# Altium footprint library MrKoi_Lib_PCB.PcbLib: 26 footprints (part 1 of 2)
Each footprint in its own frame and in the unit in brackets; x right, y up, seen from the top. Pads: shape width x height; smd on the part's side, far side on the other; paste and mask are expansions set on the pad; w line width, h text height; cw(c..) or ccw(c..) is an arc to the next point about the centre after c.
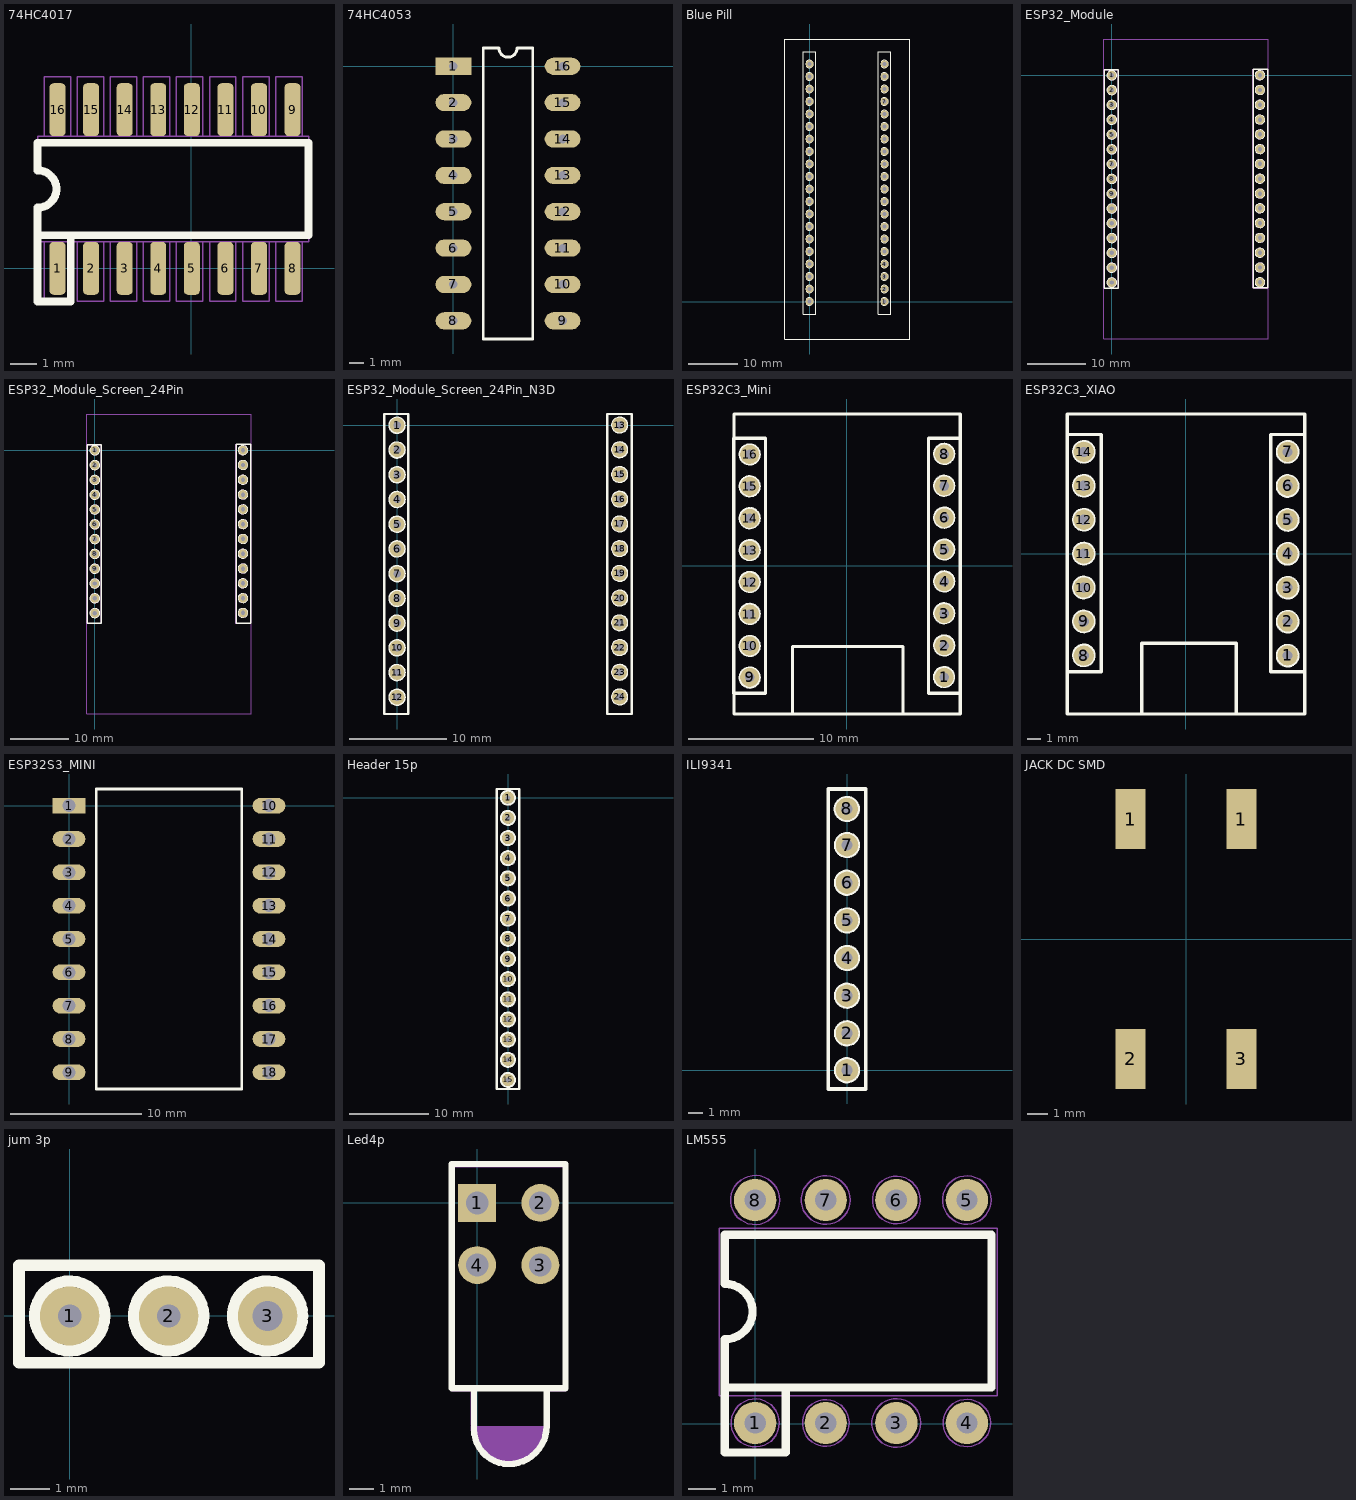
[diagram p0: the footprints below, top view; thin cyan lines are the x and y axes]

## 74HC4017 [mm] "SO16-SOT109-1"
height 1.75
pads (16):
  rrect50% 0.6x2 smd: 1(-5.06,0) 2(-3.79,0) 3(-2.52,0) 4(-1.25,0) 5(0.02,0) 6(1.29,0) 7(2.56,0) 8(3.83,0) 9(3.83,6) 10(2.56,6) 11(1.29,6) 12(0.02,6) 13(-1.25,6) 14(-2.52,6) 15(-3.79,6) 16(-5.06,6)
Top Overlay:
  lines w0.3: -4.56,1.25 -4.56,-1.25 -5.81,-1.25 -5.81,1.25 ; -5.81,1.25 4.44,1.25 4.44,4.75 -5.81,4.75 -5.81,4 -5.81,3.707 cw(c-5.81,3) -5.81,2.293 -5.81,2 -5.81,1.25
Bottom Hình chi?u b?ng:
  lines w0.05: -5.56,1 -5.56,-1.25 -4.56,-1.25 -4.56,1 ; -5.56,5 -5.56,7.25 -4.56,7.25 -4.56,5 ; -4.31,1 -4.31,-1.25 -3.31,-1.25 -3.31,1 ; -4.31,5 -4.31,7.25 -3.31,7.25 -3.31,5 ; -3.06,1 -3.06,-1.25 -2.06,-1.25 -2.06,1 ; -3.06,5 -3.06,7.25 -2.06,7.25 -2.06,5 ; -1.81,1 -1.81,-1.25 -0.81,-1.25 -0.81,1 ; -1.81,5 -1.81,7.25 -0.81,7.25 -0.81,5 ; -0.56,1 -0.56,-1.25 0.44,-1.25 0.44,1 0.69,1 0.69,-1.25 1.69,-1.25 1.69,1 1.94,1 1.94,-1.25 2.94,-1.25 2.94,1 ; -0.56,5 -0.56,7.25 0.44,7.25 0.44,5 ; 0.69,5 0.69,7.25 1.69,7.25 1.69,5 ; 1.94,5 1.94,7.25 2.94,7.25 2.94,5 ; 3.19,1 3.19,-1.25 4.19,-1.25 4.19,1 ; 3.19,5 3.19,7.25 4.19,7.25 4.19,5 ; -5.81,1 4.44,1 4.44,5 -5.81,5 -5.81,4 -5.81,3.707 cw(c-5.81,3) -5.81,2.293 -5.81,2 -5.81,1
  text "16" at -5.51,3.8 h1
  text "9" at 3.49,3.8 h1
  text "1" at -5.26,1.3 h1
  text "8" at 3.49,1.55 h1

## 74HC4053 [mm]
pads (16):
  rect 2.5x1.2 hole 0.6: 1(0,0)
  oval 2.5x1.2 hole 0.6: 2(0,-2.54) 3(0,-5.08) 4(0,-7.62) 5(0,-10.16) 6(0,-12.7) 7(0,-15.24) 8(0,-17.78) 9(7.62,-17.78) 10(7.62,-15.24) 11(7.62,-12.7) 12(7.62,-10.16) 13(7.62,-7.62) 14(7.62,-5.08) 15(7.62,-2.54) 16(7.62,0)
Top Overlay:
  lines w0.2: 2.085,-19.05 5.535,-19.05 5.535,1.27 4.445,1.27 cw(c3.81,1.27) 3.175,1.27 2.085,1.27 2.085,-19.05
3D body "DIP16.STEP": height 2.6, standoff -4.7, extent -0.135,-18.82 7.735,1.14

## BeagleBone Black [mil]
3D body "BEAGLEBONE_BLACK.STEP": height 545, standoff -217.65, extent -3561.02,-2151.95 0,0
3D body "BEAGLEBONE_BLACK.STEP": height 545, standoff -217.65, extent -3561.02,-2151.95 0,0

## Blue Pill [mil]
pads (40):
  round 60 hole 30: 1(600,0) 2(600,100) 3(600,200) 4(600,300) 7(600,1600) 10(600,400) 11(600,500) 12(600,600) 13(600,700) 14(600,800) 15(600,899.61) 16(600,1000) 17(600,1100) 18(600,1200) 19(600,1300) 21(600,1400) 22(600,1500) 25(0,1900) 26(0,1800) 27(0,1700) 28(0,1600) 29(0,1500) 30(0,1400) 31(0,1300) 32(0,1200) 33(0,1100) 38(0,1000) 39(0,899.61) 40(0,800) 41(0,700) 42(0,600) 43(0,500) 45(0,400) 46(0,300) 47(0,200) 48(0,100) 49(0,0) 50(600,1900) 51(600,1800) 52(600,1700)
Top Overlay:
  circle w10: c0,1900 r30
  circle w10: c0,1800 r30
  circle w10: c0,1700 r30
  circle w10: c0,1600 r30
  circle w10: c0,1500 r30
  circle w10: c0,1400 r30
  circle w10: c0,1300 r30
  circle w10: c0,1200 r30
  circle w10: c0,1100 r30
  circle w10: c0,1000 r30
  circle w10: c0,900 r30
  circle w10: c0,800 r30
  circle w10: c0,700 r30
  circle w10: c0,600 r30
  circle w10: c0,500 r30
  circle w10: c0,400 r30
  circle w10: c0,300 r30
  circle w10: c0,200 r30
  circle w10: c0,100 r30
  circle w10: c0,0 r30
  circle w10: c600,1900 r30
  circle w10: c600,1800 r30
  circle w10: c600,1700 r30
  circle w10: c600,1600 r30
  circle w10: c600,1500 r30
  circle w10: c600,1400 r30
  circle w10: c600,1300 r30
  circle w10: c600,1200 r30
  circle w10: c600,1100 r30
  circle w10: c600,1000 r30
  circle w10: c600,899.61 r30
  circle w10: c600,799.61 r30
  circle w10: c600,699.61 r30
  circle w10: c600,599.61 r30
  circle w10: c600,499.61 r30
  circle w10: c600,400 r30
  circle w10: c600,300 r30
  circle w10: c600,200 r30
  circle w10: c600,100 r30
  circle w10: c600,0 r30
  lines w10: -200,-300 800,-300 800,2100 -200,2100 -200,-300 ; -50,-100 50,-100 50,2000 -50,2000 -50,-100 ; 550,-100 650,-100 650,2000 550,2000 550,-100
3D body "STM32F103C8T6_Blue_Pill v6.step": height 699.61, standoff -19.69, extent -151.26,-233.46 748.74,2032.68

## ESP32_Module [mil]
pads (30):
  round 60 hole 30: 1(0,0) 2(0,-100) 3(0,-200) 4(0,-300) 5(0,-400) 6(0,-500) 7(0,-600) 8(0,-700) 9(0,-800) 10(0,-900) 11(0,-1000) 12(0,-1100) 13(0,-1200) 14(0,-1300) 15(0,-1400) 16(1001.57,1.18) 17(1001.57,-98.82) 18(1001.57,-198.82) 19(1001.57,-298.82) 20(1001.57,-398.82) 21(1001.57,-498.82) 22(1001.57,-598.82) 23(1001.57,-698.82) 24(1001.57,-798.82) 25(1001.57,-898.82) 26(1001.57,-998.82) 27(1001.57,-1098.82) 28(1001.57,-1198.82) 29(1001.57,-1298.82) 30(1001.57,-1398.82)
Top Overlay:
  circle w10: c1001.57,-198.82 r29.57
  circle w10: c1001.57,-298.82 r29.57
  circle w10: c1001.57,-98.82 r29.57
  circle w11.81: c0,-200 r29.57
  circle w11.81: c0,-300 r29.57
  circle w11.81: c0,-400 r29.57
  circle w11.81: c0,-500 r29.57
  circle w11.81: c0,0 r29.57
  circle w11.81: c0,-100 r29.57
  circle w10: c1001.57,-398.82 r29.57
  circle w10: c1001.57,-498.82 r29.57
  circle w10: c1001.57,-598.82 r29.57
  circle w10: c1001.57,-698.82 r29.57
  circle w10: c1001.57,-798.82 r29.57
  circle w10: c1001.57,1.18 r29.57
  circle w10: c1001.57,-898.82 r29.57
  circle w10: c1001.57,-998.82 r29.57
  circle w10: c1001.57,-1098.82 r29.57
  circle w10: c1001.57,-1198.82 r29.57
  circle w10: c1001.57,-1298.82 r29.57
  circle w10: c1001.57,-1398.82 r29.57
  circle w11.81: c0,-600 r29.57
  circle w11.81: c0,-700 r29.57
  circle w11.81: c0,-900 r29.57
  circle w11.81: c0,-1000 r29.57
  circle w11.81: c0,-1100 r29.57
  circle w11.81: c0,-1200 r29.57
  circle w11.81: c0,-1300 r29.57
  circle w11.81: c0,-1400 r29.57
  circle w11.81: c0,-800 r29.57
  lines w10: 43.31,-1439.37 43.31,37.01 -51.18,37.01 -51.18,-1439.37 43.31,-1439.37 ; 43.31,-1439.37 43.31,-1439.37 ; 956.69,-1435.43 956.69,40.94 1055.12,40.94 1055.12,-1435.43 956.69,-1435.43
Bottom Hình chi?u b?ng:
  circle w1.97: c1001.57,-1398.82 r29.57
  circle w1.97: c1001.57,-1298.82 r29.57
  circle w1.97: c1001.57,-1198.82 r29.57
  circle w1.97: c1001.57,-1098.82 r29.57
  circle w1.97: c1001.57,-998.82 r29.57
  circle w1.97: c1001.57,-898.82 r29.57
  circle w1.97: c1001.57,-798.82 r29.57
  circle w1.97: c1001.57,-698.82 r29.57
  circle w1.97: c1001.57,-598.82 r29.57
  circle w1.97: c1001.57,-498.82 r29.57
  circle w1.97: c1001.57,-398.82 r29.57
  circle w1.97: c1001.57,-298.82 r29.57
  circle w1.97: c1001.57,-198.82 r29.57
  circle w1.97: c1001.57,-98.82 r29.57
  circle w1.97: c1001.57,1.18 r29.57
  circle w1.97: c0,-700 r29.57
  circle w1.97: c0,-600 r29.57
  circle w1.97: c0,-500 r29.57
  circle w1.97: c0,-400 r29.57
  circle w1.97: c0,-300 r29.57
  circle w1.97: c0,-200 r29.57
  circle w1.97: c0,-100 r29.57
  circle w1.97: c0,0 r29.57
  circle w1.97: c0,-1400 r29.57
  circle w1.97: c0,-1300 r29.57
  circle w1.97: c0,-1200 r29.57
  circle w1.97: c0,-1100 r29.57
  circle w1.97: c0,-1000 r29.57
  circle w1.97: c0,-900 r29.57
  circle w1.97: c0,-800 r29.57
  lines w1.97: -53.54,-1439.37 -53.54,-1781.5 -53.15,-1781.89 1056.69,-1781.89 1056.69,-1439.37 ; -53.54,-1439.37 -53.54,37.01 ; -53.54,-1439.37 -53.54,-1439.37 ; -53.54,-1439.37 43.31,-1439.37 44.88,-1437.8 44.88,37.01 -53.54,37.01 ; -53.54,37.01 -53.54,245.67 1056.69,245.67 1056.69,40.94 ; 1056.69,-1439.37 958.27,-1439.37 954.33,-1435.43 954.33,40.94 1056.69,40.94 ; 1056.69,-1439.37 1056.69,40.94
3D body "esp32_dev_kit_v1_asm.stp": height 569.63, standoff -21.26, extent -51.18,-1781.89 1057.09,245.67

## ESP32_Module_Screen_24Pin [mil]
pads (24):
  round 60 hole 30: 1(0,0) 2(0,-100) 3(0,-200) 4(0,-300) 5(0,-400) 6(0,-500) 7(0,-600) 8(0,-700) 9(0,-800) 10(0,-900) 11(0,-1000) 12(0,-1100) 13(1001.57,1.18) 14(1001.57,-98.82) 15(1001.57,-198.82) 16(1001.57,-298.82) 17(1001.57,-398.82) 18(1001.57,-498.82) 19(1001.57,-598.82) 20(1001.57,-698.82) 21(1001.57,-798.82) 22(1001.57,-898.82) 23(1001.57,-998.82) 24(1001.57,-1098.82)
Top Overlay:
  circle w11.81: c0,-800 r29.57
  circle w11.81: c0,-1100 r29.57
  circle w11.81: c0,-1000 r29.57
  circle w11.81: c0,-900 r29.57
  circle w11.81: c0,-700 r29.57
  circle w11.81: c0,-600 r29.57
  circle w10: c1001.57,-1098.82 r29.57
  circle w10: c1001.57,-998.82 r29.57
  circle w10: c1001.57,-898.82 r29.57
  circle w10: c1001.57,1.18 r29.57
  circle w10: c1001.57,-798.82 r29.57
  circle w10: c1001.57,-698.82 r29.57
  circle w10: c1001.57,-598.82 r29.57
  circle w10: c1001.57,-498.82 r29.57
  circle w10: c1001.57,-398.82 r29.57
  circle w11.81: c0,-100 r29.57
  circle w11.81: c0,0 r29.57
  circle w11.81: c0,-500 r29.57
  circle w11.81: c0,-400 r29.57
  circle w11.81: c0,-300 r29.57
  circle w11.81: c0,-200 r29.57
  circle w10: c1001.57,-98.82 r29.57
  circle w10: c1001.57,-298.82 r29.57
  circle w10: c1001.57,-198.82 r29.57
  lines w10: -51.18,-1167.72 43.31,-1167.72 43.31,37.01 -51.18,37.01 -51.18,-1167.72 ; 956.69,-1167.72 1055.12,-1167.72 1055.12,40.94 956.69,40.94 956.69,-1167.72
Bottom Hình chi?u b?ng:
  circle w1.97: c0,-800 r29.57
  circle w1.97: c0,-900 r29.57
  circle w1.97: c0,-1000 r29.57
  circle w1.97: c0,-1100 r29.57
  circle w1.97: c0,0 r29.57
  circle w1.97: c0,-100 r29.57
  circle w1.97: c0,-200 r29.57
  circle w1.97: c0,-300 r29.57
  circle w1.97: c0,-400 r29.57
  circle w1.97: c0,-500 r29.57
  circle w1.97: c0,-600 r29.57
  circle w1.97: c0,-700 r29.57
  circle w1.97: c1001.57,1.18 r29.57
  circle w1.97: c1001.57,-98.82 r29.57
  circle w1.97: c1001.57,-198.82 r29.57
  circle w1.97: c1001.57,-298.82 r29.57
  circle w1.97: c1001.57,-398.82 r29.57
  circle w1.97: c1001.57,-498.82 r29.57
  circle w1.97: c1001.57,-598.82 r29.57
  circle w1.97: c1001.57,-698.82 r29.57
  circle w1.97: c1001.57,-798.82 r29.57
  circle w1.97: c1001.57,-898.82 r29.57
  circle w1.97: c1001.57,-998.82 r29.57
  circle w1.97: c1001.57,-1098.82 r29.57
  lines w1.97: -53.54,-1167.72 44.88,-1167.72 44.88,37.01 -53.54,37.01 ; 1056.69,-1167.72 954.33,-1167.72 954.33,40.94 1056.69,40.94 ; -53.54,-1439.37 -53.54,-1439.37 ; -53.54,-1439.37 -53.54,37.01 ; -53.54,-1439.37 -53.54,-1781.5 -53.15,-1781.89 1056.69,-1781.89 1056.69,-1439.37 1056.69,40.94 ; -53.54,37.01 -53.54,245.67 1056.69,245.67 1056.69,40.94
3D body "esp32_dev_kit_v1_asm.stp": height 569.63, standoff -21.26, extent -51.18,-1781.89 1057.09,245.67

## ESP32_Module_Screen_24Pin_N3D [mil]
pads (24):
  round 60 hole 30: 1(0,1.18) 2(0,-98.82) 3(0,-200) 4(0,-300) 5(0,-400) 6(0,-500) 7(0,-600) 8(0,-700) 9(0,-800) 10(0,-900) 11(0,-1000) 12(0,-1100) 13(900,1.18) 14(900,-98.82) 15(900,-198.82) 16(900,-298.82) 17(900,-398.82) 18(900,-498.82) 19(900,-598.82) 20(900,-698.82) 21(900,-798.82) 22(900,-898.82) 23(900,-998.82) 24(900,-1098.82)
Top Overlay:
  circle w11.81: c0,-200 r29.57
  circle w11.81: c0,-300 r29.57
  circle w11.81: c0,-400 r29.57
  circle w11.81: c0,-500 r29.57
  circle w11.81: c0,0 r29.57
  circle w11.81: c0,-100 r29.57
  circle w11.81: c0,-600 r29.57
  circle w11.81: c0,-700 r29.57
  circle w11.81: c0,-900 r29.57
  circle w11.81: c0,-1000 r29.57
  circle w11.81: c0,-1100 r29.57
  circle w11.81: c0,-800 r29.57
  circle w10: c900.57,-898.82 r29.57
  circle w10: c900.57,-598.82 r29.57
  circle w10: c900.57,-698.82 r29.57
  circle w10: c900.57,-798.82 r29.57
  circle w10: c900.57,-998.82 r29.57
  circle w10: c900.57,-98.82 r29.57
  circle w10: c900.57,1.18 r29.57
  circle w10: c900.57,-1098.82 r29.57
  circle w10: c900.57,-298.82 r29.57
  circle w10: c900.57,-498.82 r29.57
  circle w10: c900.57,-398.82 r29.57
  circle w10: c900.57,-198.82 r29.57
  lines w10: 850.2,40.94 850.2,-1167.72 948.62,-1167.72 948.62,40.94 ; 850.2,45.87 948.62,45.87 ; -51.18,-1167.72 -51.18,45.87 44.88,45.87 44.88,-1167.72 -51.18,-1167.72
Bottom Hình chi?u b?ng:
  circle w1.97: c0,-700 r29.57
  circle w1.97: c0,-600 r29.57
  circle w1.97: c0,-500 r29.57
  circle w1.97: c0,-400 r29.57
  circle w1.97: c0,-300 r29.57
  circle w1.97: c0,-200 r29.57
  circle w1.97: c0,-100 r29.57
  circle w1.97: c0,-1100 r29.57
  circle w1.97: c0,-1000 r29.57
  circle w1.97: c0,-900 r29.57
  circle w1.97: c0,-800 r29.57
  circle w1.97: c896.56,-598.82 r29.57
  circle w1.97: c896.56,-398.82 r29.57
  circle w1.97: c896.56,-298.82 r29.57
  circle w1.97: c896.56,-498.82 r29.57
  circle w1.97: c896.56,-698.82 r29.57
  circle w1.97: c896.56,-1098.82 r29.57
  circle w1.97: c896.56,-898.82 r29.57
  circle w1.97: c896.56,-998.82 r29.57
  circle w1.97: c896.56,-798.82 r29.57
  circle w1.97: c896.56,-198.82 r29.57
  circle w1.97: c896.56,-98.82 r29.57

## ESP32C3_Mini [mil]
pads (16):
  round 60 hole 30: 1(305.02,-350) 2(305.02,-250.79) 3(305.02,-150) 4(305.02,-50) 5(305.02,50) 6(305.02,150) 7(305.02,250) 8(305.02,350) 9(-305.02,-350) 10(-305.02,-251.79) 11(-305.02,-151.79) 12(-305.02,-51.79) 13(-305.02,48.21) 14(-305.02,148.21) 15(-305.02,249) 16(-305.02,349)
Top Overlay:
  circle w10: c-305.02,249 r30
  circle w10: c-305.02,349 r30
  circle w10: c-305.02,149 r30
  circle w10: c-305.02,49 r30
  circle w10: c-305.02,-151 r30
  circle w10: c-305.02,-51 r30
  circle w10: c-305.02,-251.79 r30
  circle w10: c-305.02,-351 r30
  circle w10: c305.02,-49.21 r30
  circle w10: c305.02,350.79 r30
  circle w10: c305.02,250.79 r30
  circle w10: c305.02,150.79 r30
  circle w10: c305.02,50.79 r30
  circle w10: c305.02,-250 r30
  circle w10: c305.02,-149.21 r30
  circle w10: c304.63,-349.21 r30
  lines w10: -355.02,-400.21 -255.02,-400.21 -255.02,399.79 -355.02,399.79 -355.02,-400.21 ; -353.84,-465.16 355.22,-465.16 355.22,475.78 -353.84,475.78 -353.84,-465.16 ; -170.7,-465.16 175.59,-465.16 175.59,-253.74 -170.7,-253.74 -170.7,-465.16 ; 255.41,-400.21 355.41,-400.21 355.41,399.79 255.41,399.79 255.41,-400.21
3D body "BPSC-08.stp": height 433.07, standoff -21.26, extent -355.02,-400.99 -255.02,399.01
3D body "BPSC-08.stp": height 433.07, standoff -21.26, extent 255.41,-400.99 355.41,399.01
3D body "ESP32-C3 SuperMini.SLDPRT": height 466.54, standoff 314.76, extent -353.84,-465.95 355.22,475

## ESP32C3_XIAO [mil]
pads (14):
  round 60 hole 30: 1(300.39,-299.61) 2(300.39,-199.61) 3(300.39,-99.61) 4(300.39,0.39) 5(300.39,100.39) 6(300.39,200.39) 7(300.39,300.39) 8(-300.39,-300.39) 9(-300.39,-199.61) 10(-300.39,-99.61) 11(-300.39,0.39) 12(-300.39,100.39) 13(-300.39,200.39) 14(-300.39,300.39)
Top Overlay:
  circle w10: c-300.39,300.39 r30
  circle w10: c-300.39,200.39 r30
  circle w10: c-300.39,100.39 r30
  circle w10: c-300.39,0.39 r30
  circle w10: c-300.39,-99.61 r30
  circle w10: c-300.39,-199.61 r30
  circle w10: c-300.39,-299.61 r30
  circle w10: c300.39,300.39 r30
  circle w10: c300.39,199.61 r30
  circle w10: c300.39,99.61 r30
  circle w10: c300.39,-0.39 r30
  circle w10: c300.39,-100.39 r30
  circle w10: c300.39,-200.39 r30
  circle w10: c300.39,-300.39 r30
  lines w10: -349.21,-348.34 -249.21,-348.34 -249.21,351.66 -349.21,351.66 ; 350.39,-348.34 250.39,-348.34 250.39,351.66 350.39,351.66 ; -349.21,-472.42 -349.21,411.95 350.79,411.95 350.79,-472.42 -349.21,-472.42 ; -129.92,-472.42 148.65,-472.42 148.65,-263.78 -129.92,-263.78 -129.92,-472.42
3D body "BPSC-07.stp": height 433.07, standoff -21.26, extent -349.21,-348.34 -249.21,351.66
3D body "Seeed Studio XIAO-ESP32-C3.step": height 480.71, standoff 314.96, extent -349.21,-472.42 350.79,411.95
3D body "BPSC-07.stp": height 433.07, standoff -21.26, extent 250.39,-348.34 350.39,351.66

## ESP32S3_MINI [mm]
pads (18):
  rect 2.5x1.2 hole 1: 1(0,0)
  oval 2.5x1.2 hole 1: 2(0,-2.54) 3(0,-5.08) 4(0,-7.62) 5(0,-10.16) 6(0,-12.7) 7(0,-15.24) 8(0,-17.78) 9(0,-20.32) 10(15.24,0) 11(15.24,-2.54) 12(15.24,-5.08) 13(15.24,-7.62) 14(15.24,-10.16) 15(15.24,-12.7) 16(15.24,-15.24) 17(15.24,-17.78) 18(15.24,-20.32)
Top Overlay:
  lines w0.2: 2.085,-21.59 13.155,-21.59 13.155,1.27 8.255,1.27 2.085,1.27 2.085,-21.59
3D body "ESP32S3 Super Mini.step": height 13.44, standoff 9, extent -1.438,-21.942 16.596,3.458
3D body "SIP 100-9 v1.f3d.__gcx3d__.stp": height 12.21, standoff -0.49, extent 13.989,-21.553 16.491,1.233
3D body "SIP 100-9 v1.f3d.__gcx3d__.stp": height 12.21, standoff -0.49, extent -1.251,-21.553 1.251,1.233

## Header 15p [mil]
pads (15):
  round 60 hole 23.62: 1(0,0) 2(0,-100) 3(0,-200) 4(0,-300) 5(0,-400) 6(0,-500) 7(0,-600) 8(0,-700) 9(0,-800) 10(0,-900) 11(0,-1000) 12(0,-1100) 13(0,-1200) 14(0,-1300) 15(0,-1400)
Top Overlay:
  circle w11.81: c0,0 r33.87
  circle w11.81: c0,-100 r33.87
  circle w11.81: c0,-200 r33.87
  circle w11.81: c0,-300 r33.87
  circle w11.81: c0,-400 r33.87
  circle w11.81: c0,-600 r33.87
  circle w11.81: c0,-700 r33.87
  circle w11.81: c0,-800 r33.87
  circle w11.81: c0,-900 r33.87
  circle w11.81: c0,-1000 r33.87
  circle w11.81: c0,-1100 r33.87
  circle w11.81: c0,-1200 r33.87
  circle w11.81: c0,-1300 r33.87
  circle w11.81: c0,-1400 r33.87
  circle w11.81: c0,-500 r33.87
  lines w11.81: -55.12,-1444.88 -55.12,43.31 55.12,43.31 55.12,-1444.88 -55.12,-1444.88
Bottom Hình chi?u b?ng:
  circle w1.97: c0,-100 r33.87
  circle w1.97: c0,-200 r33.87
  circle w1.97: c0,-300 r33.87
  circle w1.97: c0,-400 r33.87
  circle w1.97: c0,-500 r33.87
  circle w1.97: c0,-600 r33.87
  circle w1.97: c0,-700 r33.87
  circle w1.97: c0,-800 r33.87
  circle w1.97: c0,-900 r33.87
  circle w1.97: c0,-1000 r33.87
  circle w1.97: c0,-1100 r33.87
  circle w1.97: c0,-1200 r33.87
  circle w1.97: c0,-1300 r33.87
  circle w1.97: c0,-1400 r33.87
  circle w1.97: c0,0 r33.87
  lines w1.97: -55.12,-1444.88 -55.12,43.31 55.12,43.31 55.12,-1444.88 -55.12,-1444.88

## ILI9341 [mil]
pads (8):
  round 60 hole 30: 1(0,0) 2(0,98.43) 3(0,198.82) 4(0,299.21) 5(0,399.61) 6(0,500) 7(0,600.39) 8(-0.45,696.85)
Top Overlay:
  circle w10: c0,0 r30
  circle w10: c0,98.43 r30
  circle w10: c0,198.82 r30
  circle w10: c0,299.21 r30
  circle w10: c0,399.61 r30
  circle w10: c0,500 r30
  circle w10: c0,600.39 r30
  circle w10: c-0.45,696.85 r30
  lines w10: -50,-50 50,-50 50,750 -50,750 -50,-50

## JACK DC SMD [mil]
pads (4):
  rect 59.06x118.11 smd: 1(-109,236) 1(109,236) 2(-109,-236) 3(109,-236)
3D body "BarrelJackSMD v3.step": height 433.07, standoff -47.24, extent -307.81,-264.56 215.81,263

## jum 3p [mil]
pads (3):
  round 60 hole 23.62: 1(0,0) 2(100,0)
  round 60 hole 30: 3(200,0)
Top Overlay:
  circle w11.81: c0,0 r35.21
  circle w11.81: c0,0 r35.21
  circle w11.81: c100,0 r35.21
  circle w11.81: c200,0 r35.21
  lines w11.81: -51.18,-47.24 -51.18,51.18 251.97,51.18 251.97,-47.24 -51.18,-47.24
Bottom Hình chi?u b?ng:
  circle w1.97: c100,0 r35.21
  circle w1.97: c200,0 r35.21
  circle w1.97: c0,0 r35.21
  lines w1.97: -51.18,-47.24 -51.18,51.18 251.97,51.18 251.97,-47.24 -51.18,-47.24

## Led4p [mil]
pads (4):
  rect 60x60 hole 36 paste+0 mask+1.97: 1(0,0)
  round 60 hole 36 paste+0 mask+1.97: 2(100,0) 3(100,-98.42) 4(0,-98.42)
Top Overlay:
  lines w10: -5,-298.35 -5,-338.35 -5,-358.35 ccw(c50,-358.35) 50,-413.35 ccw(c50,-353.35) 110,-353.35 110,-333.35 110,-293.35 ; -40,-293.35 140,-293.35 140,61.65 -40,61.65 -40,-293.35
Mechanical 6:
  region: -10,-353.35 -10,-359.16 -7.73,-370.57 -3.28,-381.32 3.18,-390.99 11.41,-399.22 21.08,-405.68 31.83,-410.13 43.24,-412.4 54.87,-412.4 66.28,-410.13 77.03,-405.68 86.7,-399.22 94.93,-390.99 101.39,-381.32 105.84,-370.57 108.11,-359.16 108.11,-353.35
Mechanical 15:
  region: -38.19,57.08 -38.19,56.11 -39.57,54.72 -41.53,54.72 -42.91,56.11 -42.91,57.08 -42.91,58.06 -41.53,59.45 -39.57,59.45 -38.19,58.06
  region: -9.84,-88.58 9.84,-88.58 9.84,-108.27 -9.84,-108.27
  region: -9.84,11.42 9.84,11.42 9.84,-8.27 -9.84,-8.27
  region: 90.16,11.42 109.84,11.42 109.84,-8.27 90.16,-8.27
  region: 90.16,-88.58 109.84,-88.58 109.84,-108.27 90.16,-108.27
  lines w2: -40.55,-297.24 -9.05,-297.24 -9.05,-348.42 ccw(c50,-348.42) 109.06,-348.42 109.06,-297.24 140.55,-297.24 140.55,57.09 -40.55,57.09 -40.55,-297.24
3D body "xb-scc-01xx.stp": height 380.85, standoff -119.15, extent -30,-580.51 127.48,31.69

## LM555 [mil]
pads (8):
  round 60 hole 30: 1(0,0.93) 2(100,0.93) 3(200,0.93) 4(300,0.93) 5(300,316.93) 6(200,316.93) 7(100,316.93) 8(0,316.93)
Top Overlay:
  lines w11.81: -43.11,40.75 -43.11,99.8 -43.11,119.49 ccw(c-43.11,158.86) -43.11,198.23 -43.11,217.91 ; -43.11,41.67 -43.11,-41 35.63,-41 43.5,-41 43.5,47.24 ; -43.11,218.41 -43.11,267.72 334.84,267.72 334.84,51.18 -39.37,51.18
Bottom Hình chi?u b?ng:
  circle w1.97: c200,0.93 r34.62
  circle w1.97: c300,0.93 r33.53
  circle w1.97: c100,0.93 r32.99
  circle w1.97: c0,0.93 r34.07
  circle w1.97: c0,316.93 r34.83
  circle w1.97: c100,316.93 r34.64
  circle w1.97: c200,316.93 r33.84
  circle w1.97: c300,316.93 r34.3
  lines w1.97: -51.18,277.04 -50.98,276.97 ; 342.72,47.05 342.72,276.97 ; -50.98,276.97 342.72,276.97 ; -50.98,276.97 -51.18,39.37 -44.49,39.37 -32.78,39.37 324.51,39.37 334.65,39.37 342.72,39.37 342.72,276.97
  text "5" at 277.76,224.31 h39.37
  text "8" at -9.65,224.31 h39.37
  text "1" at -9.65,66.34 h39.37
  text "4" at 277.76,66.34 h39.37